# Altium footprint library TE_6-534998-7.PcbLib: 1 footprints
Each footprint in its own frame and in the unit in brackets; x right, y up, seen from the top. Pads: shape width x height; smd on the part's side, far side on the other; paste and mask are expansions set on the pad; w line width, h text height; cw(c..) or ccw(c..) is an arc to the next point about the centre after c.
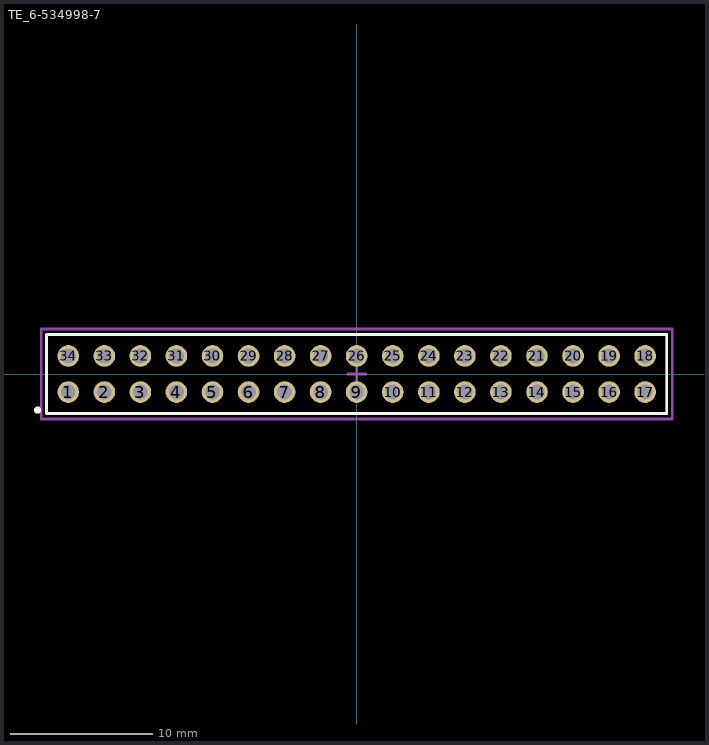
[diagram p0: the footprint, top view; thin cyan lines are the x and y axes]

## TE_6-534998-7 [mil]
pads (34):
  round 60 hole 41: 1(-800,-50) 2(-700,-50) 3(-600,-50) 4(-500,-50) 5(-400,-50) 6(-300,-50) 7(-200,-50) 8(-100,-50) 9(0,-50) 10(100,-50) 11(200,-50) 12(300,-50) 13(400,-50) 14(500,-50) 15(600,-50) 16(700,-50) 17(800,-50) 18(800,50) 19(700,50) 20(600,50) 21(500,50) 22(400,50) 23(300,50) 24(200,50) 25(100,50) 26(0,50) 27(-100,50) 28(-200,50) 29(-300,50) 30(-400,50) 31(-500,50) 32(-600,50) 33(-700,50) 34(-800,50)
Top Overlay:
  circle w10: c-885,-100 r5
  lines w7.87: -860,-110 860,-110 860,110 -860,110 -860,-110
Mechanical 15:
  lines w7.87: -25,0 25,0 ; 0,-25 0,25 ; -875,-125 -875,125 875,125 875,-125 -875,-125
Mechanical 17:
  lines w7.87: -860,-110 -860,110 860,110 860,-110 -860,-110
  text ".Designator" at -825,-70 h60
Mechanical 19:
  lines w7.87: -860,-110 -860,110 860,110 860,-110 -860,-110
  text ".Comment" at -835,-80 h60
3D body: height 265, standoff -125, extent -849.99,-98.99 850.01,99